# Altium schematic symbol library 20-Moudel_lib.SchLib: 8 symbols
Pins are listed as number, name and electrical type; pins without a type are passive.

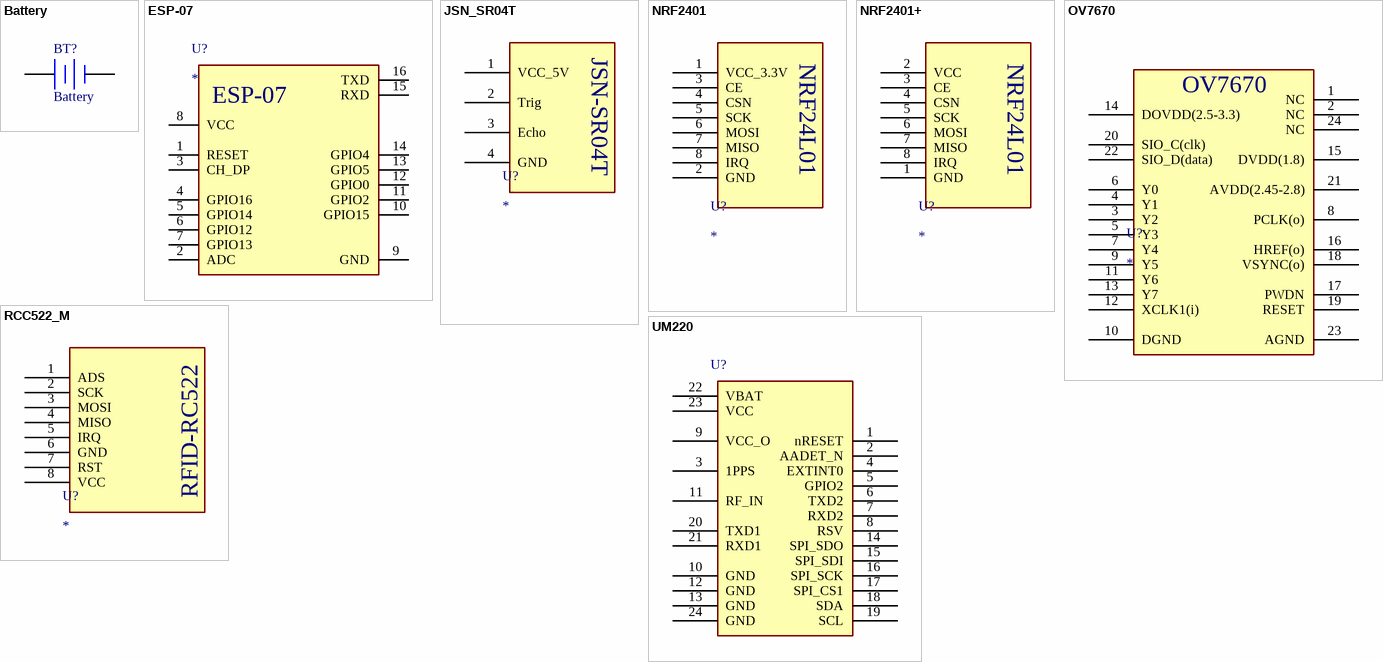
[diagram p0: symbols Battery to UM220]

## Battery
designator BT?
备份电池; Published: 24-Mar-1999; LatestRevisionDate: 17-Jul-2002; LatestRevisionNote: Re-released for DXP Platform.; PackageReference: BAT-2; Publisher: Altium Limited
footprint BATTER_1220
pins: 1 +, 2 -

## ESP-07
designator U?
无线WIFI通信芯片，串口可操作
footprint ESP-07
pins: 1 RESET, 2 ADC, 3 CH_DP, 4 GPIO16, 5 GPIO14, 6 GPIO12, 7 GPIO13, 8 VCC, 9 GND, 10 GPIO15, 11 GPIO2, 12 GPIO0, 13 GPIO5, 14 GPIO4, 15 RXD, 16 TXD

## JSN_SR04T
designator U?
超声距离模块
footprint JSN-SR04T
pins: 1 VCC_5V, 2 Trig, 3 Echo, 4 GND
text: JSN-SR04T

## NRF2401
designator U?
2.4G无线芯片
footprint NRF2401_M
pins: 1 VCC_3.3V, 2 GND, 3 CE, 4 CSN, 5 SCK, 6 MOSI, 7 MISO, 8 IRQ
text: NRF24L01

## NRF2401+
designator U?
2.4G无线芯片
footprint NRF2401+
pins: 1 GND, 2 VCC, 3 CE, 4 CSN, 5 SCK, 6 MOSI, 7 MISO, 8 IRQ
text: NRF24L01

## OV7670
designator U?
30W摄像头
pins: 1 NC, 2 NC, 3 Y2, 4 Y1, 5 Y3, 6 Y0, 7 Y4, 8 PCLK(o), 9 Y5, 10 DGND, 11 Y6, 12 XCLK1(i), 13 Y7, 14 DOVDD(2.5-3.3), 15 DVDD(1.8), 16 HREF(o), 17 PWDN, 18 VSYNC(o), 19 RESET, 20 SIO_C(clk), 21 AVDD(2.45-2.8), 22 SIO_D(data), 23 AGND, 24 NC

## RCC522_M
designator U?
读卡器
footprint CON8P_2.54MM
pins: 1 ADS, 2 SCK, 3 MOSI, 4 MISO, 5 IRQ, 6 GND, 7 RST, 8 VCC
text: RFID-RC522

## UM220
designator U?, comment GPS Moudle  (value not drawn)
footprint UM220-III
pins: 1 nRESET, 2 AADET_N, 3 1PPS, 4 EXTINT0, 5 GPIO2, 6 TXD2, 7 RXD2, 8 RSV, 9 VCC_O, 10 GND, 11 RF_IN, 12 GND, 13 GND, 14 SPI_SDO, 15 SPI_SDI, 16 SPI_SCK, 17 SPI_CS1, 18 SDA, 19 SCL, 20 TXD1, 21 RXD1, 22 VBAT, 23 VCC, 24 GND